# EAGLE library part 1.27.MMPROGRAM_CON (library PsoC)
1.27mm Cypress MiniProg Connector
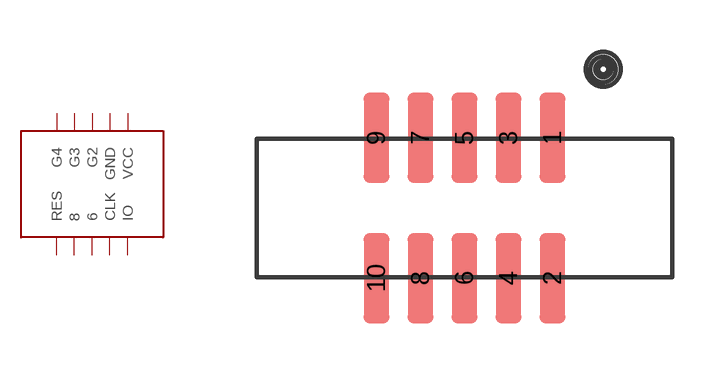
[diagram p4: symbol with the pads of H2X5-SMD-1.27; footprint H2X5-SMD-1.27]

Designator prefix CON

## 1.27.MMPROGRAM_CON  [H2X5-SMD-1.27]
1  VCC
2  IO
3  GND
4  CLK
5  G2
6  6
7  G3
8  8
9  G4
10  RES

## Footprint H2X5-SMD-1.27 (pad centres in mm)
smd 0.74 x 2.6: 1 2.54,2.025; 2 2.54,-2.025; 3 1.27,2.025; 4 1.27,-2.025; 5 0,2.025; 6 0,-2.025; 7 -1.27,2.025; 8 -1.27,-2.025; 9 -2.54,2.025; 10 -2.54,-2.025